# Altium schematic symbol library PowerProducts.SchLib: 1 symbol
Pins are listed as number, name and electrical type; pins without a type are passive.

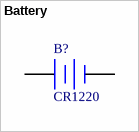
[diagram p0: symbol Battery]

## Battery
designator B?, comment CR1220
Multicell Battery
pins: 1 +, 2 -